# Altium schematic symbol library TUSB1210.SchLib: 1 symbol
Pins are listed as number, name and electrical type; pins without a type are passive.

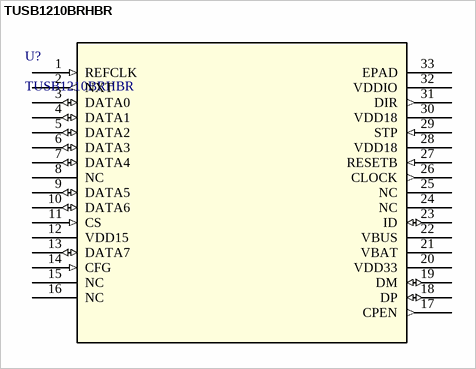
[diagram p0: symbol TUSB1210BRHBR]

## TUSB1210BRHBR
designator U?
USB 2.0 ULPI Transceiver; Vendor: Texas Instruments; PACKAGE_DESIGNATOR: RHB; PIN_COUNT: 32; FAMILY_NAME: USB TRANSCEIVER; INDUSTRY_STD_PKG_TYPE: QFN; Manufacturer_Part_Number: TUSB1210BRHBR; GENERIC_PART_NUMBER: TUSB1210; Datasheet_URL: http://www.ti.com/lit/gpn/TUSB1210; Manufacturer: Texas Instruments; Copyright: Copyright (C) 2018 Accelerated Designs. All rights reserved; RefDes: RefDes; Type: DEV
footprint RHB32_3P45X3P45
pins: 1 REFCLK (in), 2 NXT (out), 3 DATA0 (io), 4 DATA1 (io), 5 DATA2 (io), 6 DATA3 (io), 7 DATA4 (io), 8 NC, 9 DATA5 (io), 10 DATA6 (io), 11 CS (in), 12 VDD15 (power), 13 DATA7 (io), 14 CFG (in), 15 NC, 16 NC, 17 CPEN (out), 18 DP (io), 19 DM (io), 20 VDD33 (power), 21 VBAT (power), 22 VBUS (power), 23 ID (io), 24 NC, 25 NC, 26 CLOCK (out), 27 RESETB (in), 28 VDD18 (power), 29 STP (in), 30 VDD18 (power), 31 DIR (out), 32 VDDIO (power), 33 EPAD